# Altium footprint library oscillator.PcbLib: 2 footprints
Each footprint in its own frame and in the unit in brackets; x right, y up, seen from the top. Pads: shape width x height; smd on the part's side, far side on the other; paste and mask are expansions set on the pad; w line width, h text height; cw(c..) or ccw(c..) is an arc to the next point about the centre after c.
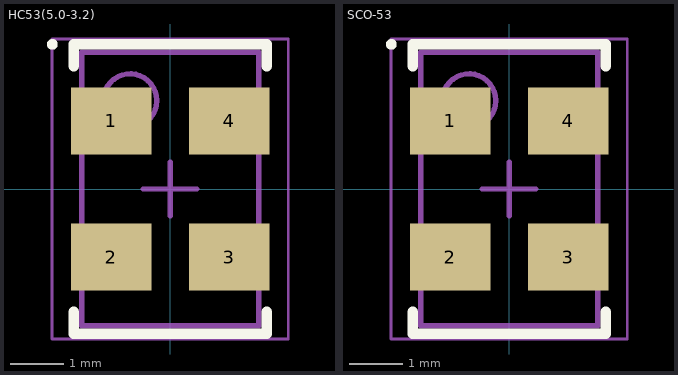
[diagram p0: the footprints below, top view; thin cyan lines are the x and y axes]

## HC53(5.0-3.2) [mm] "OSC, 4-Leads, Body 5.00x3.20mm, Pitch 2.54mm"
height 51.181
pads (4):
  rect 1.5x1.25 smd: 1(-1.1,1.27) 2(-1.1,-1.27) 3(1.1,-1.27) 4(1.1,1.27)
Top Overlay:
  circle w0.1: c-2.2,2.7 r0.05
  lines w0.2: -1.8,-2.295 -1.8,-2.7 1.8,-2.7 1.8,-2.295 ; -1.8,2.295 -1.8,2.7 1.8,2.7 1.8,2.295
Mechanical 13:
  circle w0.1: c-0.75,1.65 r0.5
  lines w0.1: -1.65,-2.55 -1.65,2.55 1.65,2.55 1.65,-2.55 -1.65,-2.55
Mechanical 15:
  lines w0.05: -2.205,-2.8 -2.205,2.8 2.205,2.8 2.205,-2.8 -2.205,-2.8
  lines w0.1: -0.5,0 0.5,0 ; 0,-0.5 0,0.5
3D body "ASFL1.STEP": height 1.31, standoff 0.01, extent -1.6,-2.5 1.6,2.5

## SCO-53 [mm] "OSC, 4-Leads, Body 5.00x3.20mm, Pitch 2.54mm"
height 51.181
pads (4):
  rect 1.5x1.25 smd: 1(-1.1,1.27) 2(-1.1,-1.27) 3(1.1,-1.27) 4(1.1,1.27)
Top Overlay:
  circle w0.1: c-2.2,2.7 r0.05
  lines w0.2: -1.8,-2.295 -1.8,-2.7 1.8,-2.7 1.8,-2.295 ; -1.8,2.295 -1.8,2.7 1.8,2.7 1.8,2.295
Mechanical 13:
  circle w0.1: c-0.75,1.65 r0.5
  lines w0.1: -1.65,-2.55 -1.65,2.55 1.65,2.55 1.65,-2.55 -1.65,-2.55
Mechanical 15:
  lines w0.05: -2.205,-2.8 -2.205,2.8 2.205,2.8 2.205,-2.8 -2.205,-2.8
  lines w0.1: -0.5,0 0.5,0 ; 0,-0.5 0,0.5
3D body "xtal_osc_5x3.2.step": height 1, standoff -0.01, extent -1.6,-2.496 1.6,2.496